# EAGLE library part 3BY8 (library jt_lib)
a 3 by 8 header
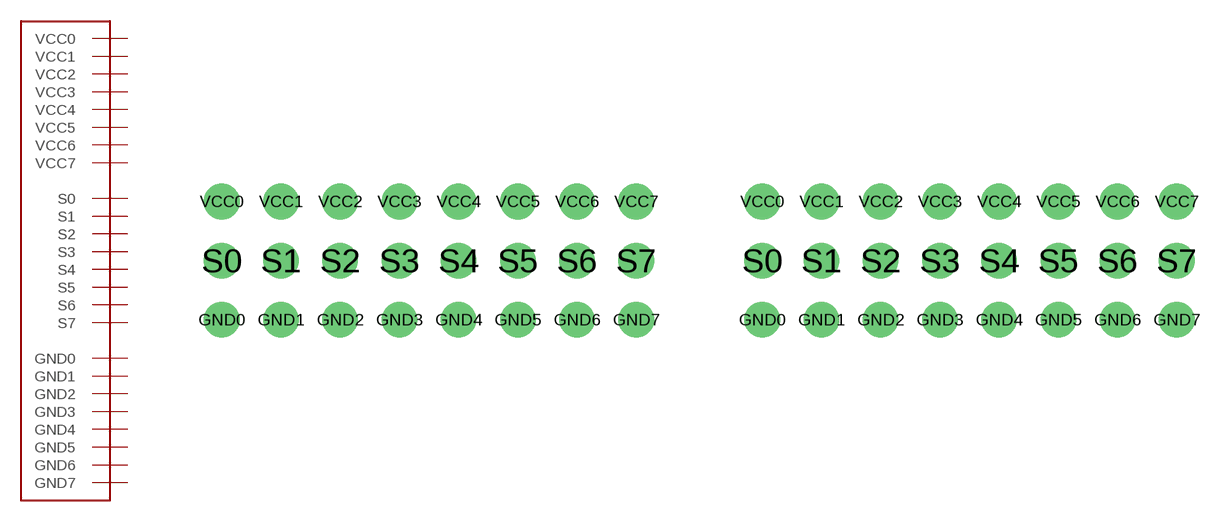
[diagram p0: symbol with the pads of 3X8_PKG; footprints 3X8_PKG, 3X8_PKG_SM_HOLES]

Designator prefix -

## 3BY83X8_SAMTEC, 3BY8MISC3X8_SAMTEC  [3X8_PKG]
GND0  GND0
GND1  GND1
GND2  GND2
GND3  GND3
GND4  GND4
GND5  GND5
GND6  GND6
GND7  GND7
S0  S0
S1  S1
S2  S2
S3  S3
S4  S4
S5  S5
S6  S6
S7  S7
VCC0  VCC0
VCC1  VCC1
VCC2  VCC2
VCC3  VCC3
VCC4  VCC4
VCC5  VCC5
VCC6  VCC6
VCC7  VCC7

## 3BY83X8_REGULAR  [3X8_PKG_SM_HOLES]
Pads as for 3X8_PKG

## Footprint 3X8_PKG (pad centres in mm)
header for samtec (slightly larger holes)
drill 0.9 pad 1.524: GND0 -5.08,-3.81; GND1 -2.54,-3.81; GND2 0,-3.81; GND3 2.54,-3.81; GND4 5.08,-3.81; GND5 7.62,-3.81; GND6 10.16,-3.81; GND7 12.7,-3.81; S0 -5.08,-1.27; S1 -2.54,-1.27; S2 0,-1.27; S3 2.54,-1.27; S4 5.08,-1.27; S5 7.62,-1.27; S6 10.16,-1.27; S7 12.7,-1.27; VCC0 -5.08,1.27; VCC1 -2.54,1.27; VCC2 0,1.27; VCC3 2.54,1.27; VCC4 5.08,1.27; VCC5 7.62,1.27; VCC6 10.16,1.27; VCC7 12.7,1.27

## Footprint 3X8_PKG_SM_HOLES (pad centres in mm)
regular (smaller) header pins
drill 0.8 pad 1.524: GND0 -8.89,-2.54; GND1 -6.35,-2.54; GND2 -3.81,-2.54; GND3 -1.27,-2.54; GND4 1.27,-2.54; GND5 3.81,-2.54; GND6 6.35,-2.54; GND7 8.89,-2.54; S0 -8.89,0; S1 -6.35,0; S2 -3.81,0; S3 -1.27,0; S4 1.27,0; S5 3.81,0; S6 6.35,0; S7 8.89,0; VCC0 -8.89,2.54; VCC1 -6.35,2.54; VCC2 -3.81,2.54; VCC3 -1.27,2.54; VCC4 1.27,2.54; VCC5 3.81,2.54; VCC6 6.35,2.54; VCC7 8.89,2.54